# Altium schematic symbol library QUTMS_DiodeLibrary.SchLib: 7 symbols
Pins are listed as number, name and electrical type; pins without a type are passive.

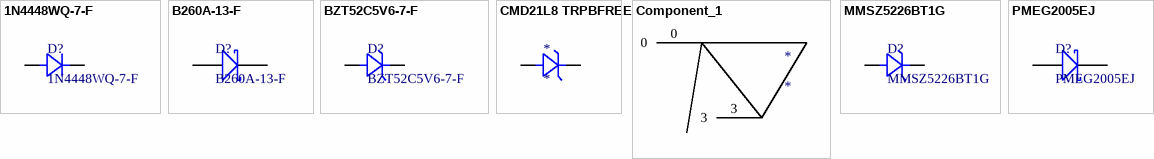
[diagram p0: symbols 1N4448WQ-7-F to PMEG2005EJ]

## 1N4448WQ-7-F
designator D?
Diode, SMD, 75V, 5%, 250mA, SOD123; Manufacturer: ON Semiconductor / Fairchild; Manufacturer Part Number: 1N914BWS; Average Rectified Current: 150mA; Element Configuration: Single; Forward Voltage: 1V; Max Reverse Leakage Current: 5uA; Power Dissipation: 200mW; Recovery Time: 4ns; Max Forward Surge Current (Ifsm): 4A; Parameter 1: *; Weight: 0.0276g; Category: Rectifier Diodes; Contact Plating: Tin,Matte; Forward Current: 150mA; Lead Free: Lead Free; Max Operating Temperature: 150°C; Max Repetitive Reverse Voltage (Vrrm): 75V; Max Reverse Voltage (DC): 75V; Min Operating Temperature: -55°C; Mount: Surface Mount; Number of Pins: 2; Package Quantity: 1; Packaging: Tape and Reel; Peak Reverse Current: 5uA; Radiation Hardening: No; REACH SVHC: No SVHC; Reverse Recovery Time: 4ns; Height: 1mm; Length: 1.8mm; Reverse Voltage: 75V; Width: 1.35mm
footprint SMA
footprint CM0Z&L&_SERIES (SODFL, 2-Leads, Body 0.80x1.60mm, IPC Medium Density)
pins: A Anode, K Cathode

## B260A-13-F
designator D?
Diode, Schottky Barrier Rectifier, 60 V, 2 A, B260A-13-F
footprint SMA
pins: 1 A, 2 K

## BZT52C5V6-7-F
designator D?
Diode, SMD, Zener, 5.6V, 7%, 500mW, SOD-123; Manufacturer: Generic; MPN: 1.8V 500mW
footprint SOD123
pins: A Anode, K Cathode

## CMD21L8 TRPBFREE
designator *
footprint SODFL160X80-2N (SODFL, 2-Leads, Body 0.80x1.60mm, IPC Medium Density)
pins: A Anode, K Cathode

## Component_1
designator *
pins: 0, 3

## MMSZ5226BT1G
designator D?
Diode, Zener, SMD, 3.3 V, 500 mW, SOD-123, 5 %, 2 Pins, 150 °C; ComponentLink1Description: Element14; ComponentLink1URL: https://au.element14.com/on-semiconductor/mmsz5226bt1g/diode-zener-3-3v-0-5w/dp/1431269
footprint SOD123
pins: A Anode, K Cathode

## PMEG2005EJ
designator D?
Diode, Schottky, SMD, 20 V, 500 mA, Single, SOD-323F, 2 Pins, 390 mV; ComponentLink1Description: Element14; ComponentLink1URL: https://au.element14.com/nexperia/pmeg2005ej-115/schottky-rect-20v-0-5a-sod323f/dp/1757760
footprint SOD-323F
pins: A Anode, K Cathode